# Altium schematic symbol library TCA9548ARGER.Schlib: 1 symbol
Pins are listed as number, name and electrical type; pins without a type are passive.

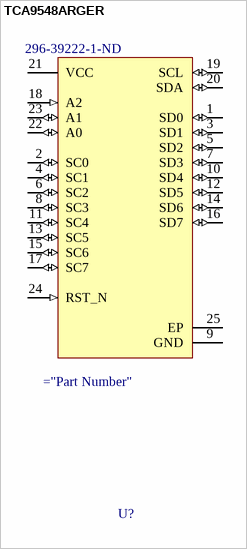
[diagram p0: symbol TCA9548ARGER]

## TCA9548ARGER
designator U?  Supplier Part Number 1: 296-39222-1-ND  (hidden comment: TCA9548ARGER)
Supplier 1: Digi-Key
footprint RGE0024C
pins: 1 SD0 (io), 2 SC0 (io), 3 SD1 (io), 4 SC1 (io), 5 SD2 (io), 6 SC2 (io), 7 SD3 (io), 8 SC3 (io), 9 GND (power), 10 SD4 (io), 11 SC4 (io), 12 SD5 (io), 13 SC5 (io), 14 SD6 (io), 15 SC6 (io), 16 SD7 (io), 17 SC7 (io), 18 A2 (in), 19 SCL (io), 20 SDA (io), 21 VCC (power), 22 A0 (io), 23 A1 (io), 24 RST_N (in), 25 EP (power)